# EAGLE library part A3909 (library a3909)
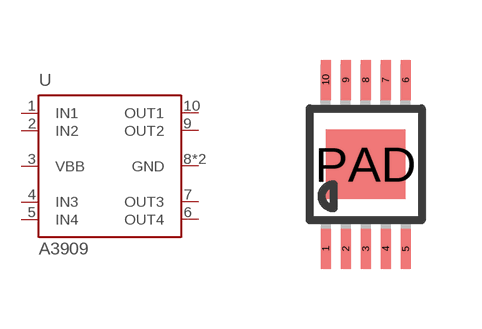
[diagram p0: symbol with the pads of MSOP10; footprint MSOP10]

Designator prefix -

## A3909  [MSOP10]
1  IN1  in
2  IN2  in
3  VBB  pwr
4  IN3  in
5  IN4  in
6  OUT4  out
7  OUT3  out
8  GND  pwr
9  OUT2  out
10  OUT1  out
PAD  GND  pwr

## Footprint MSOP10 (pad centres in mm)
10-Lead Mini Small Outline Package [MSOP] (RM-10) Source: http://www.analog.com/UploadedFiles/Data_Sheets/35641221898805SSM2167_b.pdf COMPLIANT TO JEDEC STANDARDS MO-187BA
smd 0.25 x 1: 1 -1,-2.113; 2 -0.5,-2.113; 3 0,-2.113; 4 0.5,-2.113; 5 1,-2.113; 6 1,2.113; 7 0.5,2.113; 8 0,2.113; 9 -0.5,2.113; 10 -1,2.113
smd 1.98 x 1.73: PAD 0,0